# EAGLE library part STM32G0B1CET6 (library tecsmith_stm32)
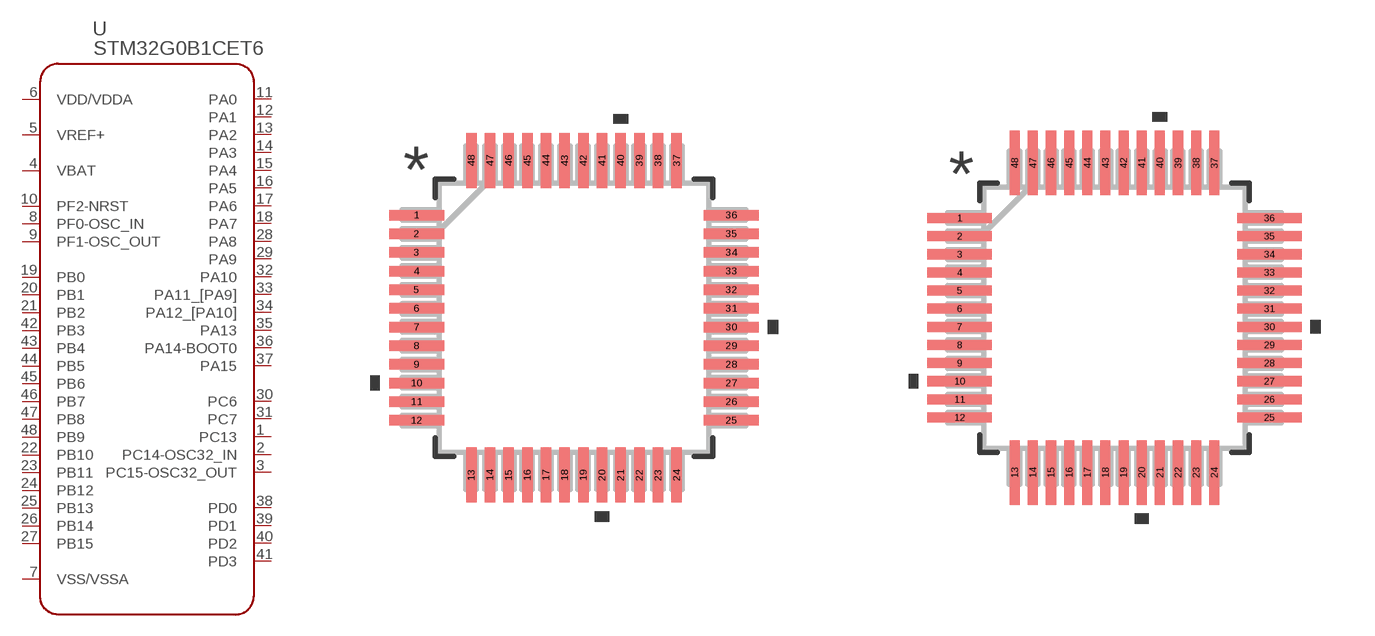
[diagram p6: symbol with the pads of LQFP48_STM; footprints LQFP48_STM, LQFP48_STM-M]

Designator prefix U

## STM32G0B1CET6 (COPYRIGHT: Copyright (C) 2025 Ultra Librarian. All rights reserved.; DATASHEET: https://www.st.com/resource/en/datasheet/stm32g0b1cc.pdf; DESCRIPTION: Mainstream Arm Cortex-M0+ 32-bit MCU, up to 512KB Flash, 144KB RAM, 6x USART, timers, ADC, DAC, comm. I/Fs, 1.7-3.6V; MANUFACTURER_NAME: STMicroelectronics; MANUFACTURER_PART_NUMBER: STM32G0B1CET6)  [LQFP48_STM]
1  PC13
2  PC14-OSC32_IN
3  PC15-OSC32_OUT  out
4  VBAT  pas
5  VREF+  pwr
6  VDD/VDDA  pwr
7  VSS/VSSA  pas
8  PF0-OSC_IN
9  PF1-OSC_OUT
10  PF2-NRST
11  PA0
12  PA1
13  PA2
14  PA3
15  PA4
16  PA5
17  PA6
18  PA7
19  PB0
20  PB1
21  PB2
22  PB10
23  PB11
24  PB12
25  PB13
26  PB14
27  PB15
28  PA8
29  PA9
30  PC6
31  PC7
32  PA10
33  PA11_[PA9]
34  PA12_[PA10]
35  PA13
36  PA14-BOOT0
37  PA15
38  PD0
39  PD1
40  PD2
41  PD3
42  PB3
43  PB4
44  PB5
45  PB6
46  PB7
47  PB8
48  PB9

## STM32G0B1CET6LQFP48_STM-M (COPYRIGHT: Copyright (C) 2025 Ultra Librarian. All rights reserved.; DATASHEET: https://www.st.com/resource/en/datasheet/stm32g0b1cc.pdf; DESCRIPTION: Mainstream Arm Cortex-M0+ 32-bit MCU, up to 512KB Flash, 144KB RAM, 6x USART, timers, ADC, DAC, comm. I/Fs, 1.7-3.6V; MANUFACTURER_NAME: STMicroelectronics; MANUFACTURER_PART_NUMBER: STM32G0B1CET6)  [LQFP48_STM-M]
Pads as for LQFP48_STM

## STM32G0B1CET6LQFP48_STM-L (COPYRIGHT: Copyright (C) 2025 Ultra Librarian. All rights reserved.; DATASHEET: https://www.st.com/resource/en/datasheet/stm32g0b1cc.pdf; DESCRIPTION: Mainstream Arm Cortex-M0+ 32-bit MCU, up to 512KB Flash, 144KB RAM, 6x USART, timers, ADC, DAC, comm. I/Fs, 1.7-3.6V; MANUFACTURER_NAME: STMicroelectronics; MANUFACTURER_PART_NUMBER: STM32G0B1CET6)  [LQFP48_STM-L]
Pads as for LQFP48_STM

## Footprint LQFP48_STM (pad centres in mm)
smd 1.473 x 0.279: 1 -4.216,2.75; 2 -4.216,2.25; 3 -4.216,1.75; 4 -4.216,1.25; 5 -4.216,0.75; 6 -4.216,0.25; 7 -4.216,-0.25; 8 -4.216,-0.75; 9 -4.216,-1.25; 10 -4.216,-1.75; 11 -4.216,-2.25; 12 -4.216,-2.75; 25 4.216,-2.75; 26 4.216,-2.25; 27 4.216,-1.75; 28 4.216,-1.25; 29 4.216,-0.75; 30 4.216,-0.25; 31 4.216,0.25; 32 4.216,0.75; 33 4.216,1.25; 34 4.216,1.75; 35 4.216,2.25; 36 4.216,2.75
smd 0.279 x 1.473: 13 -2.75,-4.216; 14 -2.25,-4.216; 15 -1.75,-4.216; 16 -1.25,-4.216; 17 -0.75,-4.216; 18 -0.25,-4.216; 19 0.25,-4.216; 20 0.75,-4.216; 21 1.25,-4.216; 22 1.75,-4.216; 23 2.25,-4.216; 24 2.75,-4.216; 37 2.75,4.216; 38 2.25,4.216; 39 1.75,4.216; 40 1.25,4.216; 41 0.75,4.216; 42 0.25,4.216; 43 -0.25,4.216; 44 -0.75,4.216; 45 -1.25,4.216; 46 -1.75,4.216; 47 -2.25,4.216; 48 -2.75,4.216

## Footprint LQFP48_STM-M (pad centres in mm)
smd 1.778 x 0.279: 1 -4.267,2.75; 2 -4.267,2.25; 3 -4.267,1.75; 4 -4.267,1.25; 5 -4.267,0.75; 6 -4.267,0.25; 7 -4.267,-0.25; 8 -4.267,-0.75; 9 -4.267,-1.25; 10 -4.267,-1.75; 11 -4.267,-2.25; 12 -4.267,-2.75; 25 4.267,-2.75; 26 4.267,-2.25; 27 4.267,-1.75; 28 4.267,-1.25; 29 4.267,-0.75; 30 4.267,-0.25; 31 4.267,0.25; 32 4.267,0.75; 33 4.267,1.25; 34 4.267,1.75; 35 4.267,2.25; 36 4.267,2.75
smd 0.279 x 1.778: 13 -2.75,-4.267; 14 -2.25,-4.267; 15 -1.75,-4.267; 16 -1.25,-4.267; 17 -0.75,-4.267; 18 -0.25,-4.267; 19 0.25,-4.267; 20 0.75,-4.267; 21 1.25,-4.267; 22 1.75,-4.267; 23 2.25,-4.267; 24 2.75,-4.267; 37 2.75,4.267; 38 2.25,4.267; 39 1.75,4.267; 40 1.25,4.267; 41 0.75,4.267; 42 0.25,4.267; 43 -0.25,4.267; 44 -0.75,4.267; 45 -1.25,4.267; 46 -1.75,4.267; 47 -2.25,4.267; 48 -2.75,4.267

## Footprint LQFP48_STM-L (pad centres in mm)
smd 1.168 x 0.229: 1 -4.166,2.75; 2 -4.166,2.25; 3 -4.166,1.75; 4 -4.166,1.25; 5 -4.166,0.75; 6 -4.166,0.25; 7 -4.166,-0.25; 8 -4.166,-0.75; 9 -4.166,-1.25; 10 -4.166,-1.75; 11 -4.166,-2.25; 12 -4.166,-2.75; 25 4.166,-2.75; 26 4.166,-2.25; 27 4.166,-1.75; 28 4.166,-1.25; 29 4.166,-0.75; 30 4.166,-0.25; 31 4.166,0.25; 32 4.166,0.75; 33 4.166,1.25; 34 4.166,1.75; 35 4.166,2.25; 36 4.166,2.75
smd 0.229 x 1.168: 13 -2.75,-4.166; 14 -2.25,-4.166; 15 -1.75,-4.166; 16 -1.25,-4.166; 17 -0.75,-4.166; 18 -0.25,-4.166; 19 0.25,-4.166; 20 0.75,-4.166; 21 1.25,-4.166; 22 1.75,-4.166; 23 2.25,-4.166; 24 2.75,-4.166; 37 2.75,4.166; 38 2.25,4.166; 39 1.75,4.166; 40 1.25,4.166; 41 0.75,4.166; 42 0.25,4.166; 43 -0.25,4.166; 44 -0.75,4.166; 45 -1.25,4.166; 46 -1.75,4.166; 47 -2.25,4.166; 48 -2.75,4.166